# EAGLE library part RJ45 (library Akizuki)
RJ45 (Ethernet) Connector RJ45 Connector with internal transformer and 2 LEDs (Yellow/Green). LEDs have max foreward-voltage of 2.5V. LEDs require an external resistor. RJ45_PULSEJACK: Digikey 553-1349-ND
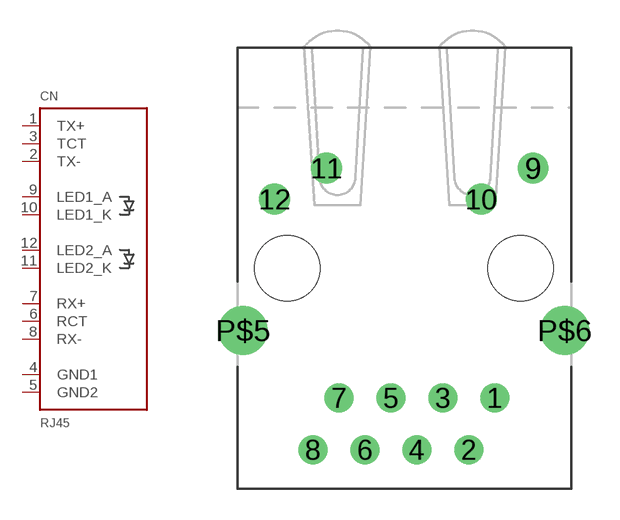
[diagram p26: symbol with the pads of RJ45_PULSEJACK; footprint RJ45_PULSEJACK]

Designator prefix CN

## RJ45  [RJ45_PULSEJACK]
1  TX+
2  TX-
3  TCT
4  GND1
5  GND2
6  RCT
7  RX+
8  RX-
9  LED1_A
10  LED1_K
11  LED2_K
12  LED2_A

## Footprint RJ45_PULSEJACK (pad centres in mm)
RJ45 (Ethernet) Connector with LEDs and Built-In Transformer Model: J0026D21BNL Digikey: 553-1349-ND
drill 0.9: 1 4.445,-6.35; 2 3.175,-8.89; 3 1.905,-6.35; 4 0.635,-8.89; 5 -0.635,-6.35; 6 -1.905,-8.89; 7 -3.175,-6.35; 8 -4.445,-8.89
drill 1: 9 6.325,4.9; 10 3.785,3.38; 11 -3.785,4.9; 12 -6.325,3.38
drill 1.6: P$5 -7.875,-3.05; P$6 7.875,-3.05
hole 3.2 at -5.715,0
hole 3.2 at 5.715,0